# Altium schematic symbol library SCH_PowerSupply.SchLib: 3 symbols
Pins are listed as number, name and electrical type; pins without a type are passive.

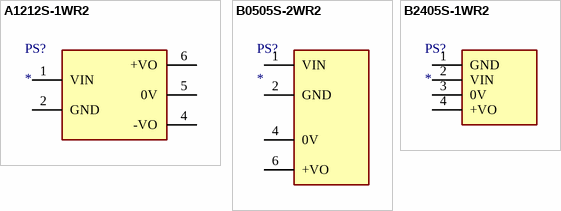
[diagram p0: symbols A1212S-1WR2 to B2405S-1WR2]

## A1212S-1WR2
designator PS?
Power Supply; Manufacturer_Name: Mornsun; Manufacturer_Part_Number: A1212S-1WR2; Datasheet Link: https://www.mornsun-power.com/html/pdf/A1212S-1WR2.html; Height: 9.55mm
footprint A1212S1WR2
pins: 1 VIN, 2 GND, 4 -VO, 5 0V, 6 +VO

## B0505S-2WR2
designator PS?
Power Supply; Manufacturer_Name: Mornsun; Manufacturer_Part_Number: B0505S-2WR2; Datasheet Link: https://4donline.ihs.com/images/VipMasterIC/IC/MNSN/MNSN-S-A0002273819/MNSN-S-A0002273819-1.pdf?hkey=EF798316E3902B6ED9A73243A3159BB0; Height: 10.41mm
footprint B0505S2WR2
pins: 1 VIN, 2 GND, 4 0V, 6 +VO

## B2405S-1WR2
designator PS?
Power Supply; Manufacturer_Name: Mornsun; Manufacturer_Part_Number: B2405S-1WR2; Datasheet Link: https://www.mornsun-power.com/uploads/pdf/B_S-1WR2.pdf; Height: 10.16mm
footprint B2405S1WR2
pins: 1 GND, 2 VIN, 3 0V, 4 +VO